# Altium footprint library JSZ3-01CA.PcbLib: 1 footprints
Each footprint in its own frame and in the unit in brackets; x right, y up, seen from the top. Pads: shape width x height; smd on the part's side, far side on the other; paste and mask are expansions set on the pad; w line width, h text height; cw(c..) or ccw(c..) is an arc to the next point about the centre after c.
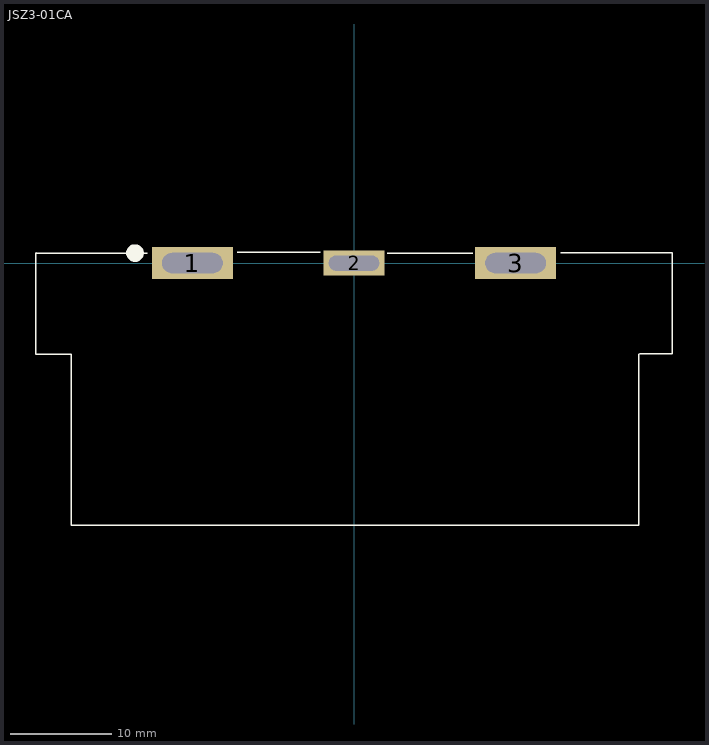
[diagram p0: the footprint, top view; thin cyan lines are the x and y axes]

## JSZ3-01CA [mm] "3-pin screw terminal"
height 20
pads (3):
  rect 8x3.2 hole 2 slot 6 at 0 deg: 1(-16,0) 3(16,0)
  rect 6x2.5 hole 1.5 slot 5 at 0 deg: 2(0,0)
Top Overlay:
  circle w1: c-21.68,0.991 r0.37
  lines w0.125: -20.447,0.991 -31.471,0.991 -31.496,1.016 -31.496,-9.042 -31.471,-9.017 -27.991,-9.017 -27.965,-9.042 -27.965,-25.908 -27.915,-25.959 28.194,-25.959 28.194,-9.042 28.27,-8.966 31.496,-8.966 31.496,1.016 31.471,1.041 20.472,1.041 ; -11.557,1.067 -3.327,1.067 ; 3.302,0.991 11.735,0.991
3D body "JSZ3-01CA.stp": height 20.4, standoff -4.75, extent -36.476,-27.635 36.324,2.174